# Altium footprint library Common-Parts-Library.PcbLib: 530 footprints (part 18 of 34)
Each footprint in its own frame and in the unit in brackets; x right, y up, seen from the top. Pads: shape width x height; smd on the part's side, far side on the other; paste and mask are expansions set on the pad; w line width, h text height; cw(c..) or ccw(c..) is an arc to the next point about the centre after c.
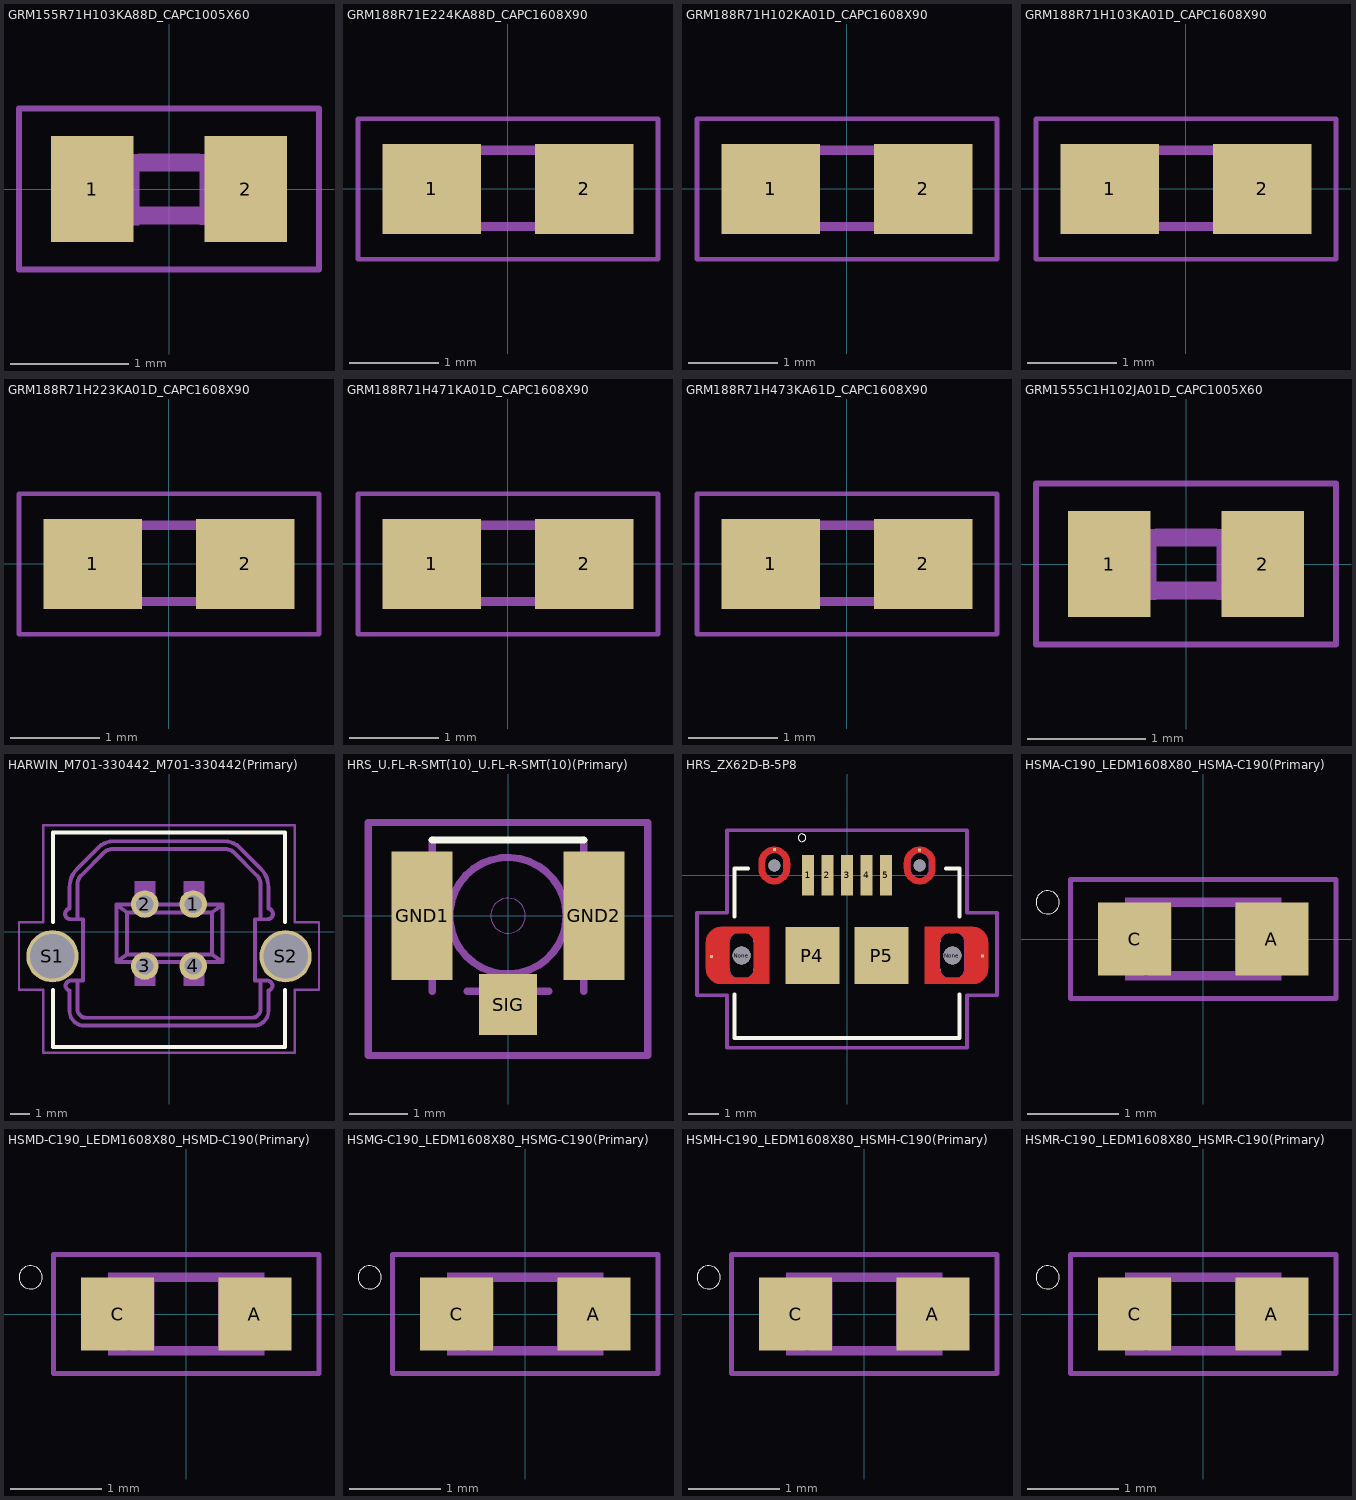
[diagram p17: the footprints below, top view; thin cyan lines are the x and y axes]

## GRM155R71H103KA88D_CAPC1005X60 [mm]
pads (2):
  rect 0.7x0.9 smd: 1(-0.65,0) 2(0.65,0)
Mechanical 1:
  region: 0.259,0.295 0.559,0.295 0.559,-0.305 0.259,-0.305
  region: -0.556,0.295 -0.254,0.295 -0.254,-0.306 -0.556,-0.306
  lines w0.051: -1.273,-0.683 -1.273,0.683 1.273,0.683 1.273,-0.683 -1.273,-0.683
  lines w0.152: -0.245,-0.224 0.245,-0.224 ; -0.245,0.224 0.245,0.224

## GRM188R71E224KA88D_CAPC1608X90 [mm]
pads (2):
  rect 1.1x1 smd: 1(-0.85,0) 2(0.85,0)
Mechanical 1:
  region: 0.33,0.48 0.83,0.48 0.83,-0.47 0.33,-0.47
  region: -0.841,0.48 -0.338,0.48 -0.338,-0.471 -0.841,-0.471
  lines w0.051: -1.673,-0.783 -1.673,0.783 1.673,0.783 1.673,-0.783 -1.673,-0.783
  lines w0.102: -0.356,-0.419 0.356,-0.419 ; -0.356,0.432 0.356,0.432

## GRM188R71H102KA01D_CAPC1608X90 [mm]
pads (2):
  rect 1.1x1 smd: 1(-0.85,0) 2(0.85,0)
Mechanical 1:
  region: 0.331,0.48 0.83,0.48 0.83,-0.471 0.331,-0.471
  region: -0.84,0.48 -0.338,0.48 -0.338,-0.471 -0.84,-0.471
  lines w0.051: -1.673,-0.783 -1.673,0.783 1.673,0.783 1.673,-0.783 -1.673,-0.783
  lines w0.102: -0.356,-0.419 0.356,-0.419 ; -0.356,0.432 0.356,0.432

## GRM188R71H103KA01D_CAPC1608X90 [mm]
pads (2):
  rect 1.1x1 smd: 1(-0.85,0) 2(0.85,0)
Mechanical 1:
  region: 0.33,0.48 0.83,0.48 0.83,-0.47 0.33,-0.47
  region: -0.841,0.48 -0.338,0.48 -0.338,-0.471 -0.841,-0.471
  lines w0.051: -1.673,-0.783 -1.673,0.783 1.673,0.783 1.673,-0.783 -1.673,-0.783
  lines w0.102: -0.356,-0.419 0.356,-0.419 ; -0.356,0.432 0.356,0.432

## GRM188R71H223KA01D_CAPC1608X90 [mm]
pads (2):
  rect 1.1x1 smd: 1(-0.85,0) 2(0.85,0)
Mechanical 1:
  region: 0.331,0.48 0.83,0.48 0.83,-0.47 0.331,-0.47
  region: -0.84,0.48 -0.338,0.48 -0.338,-0.471 -0.84,-0.471
  lines w0.051: -1.673,-0.783 -1.673,0.783 1.673,0.783 1.673,-0.783 -1.673,-0.783
  lines w0.102: -0.356,-0.419 0.356,-0.419 ; -0.356,0.432 0.356,0.432

## GRM188R71H471KA01D_CAPC1608X90 [mm]
pads (2):
  rect 1.1x1 smd: 1(-0.85,0) 2(0.85,0)
Mechanical 1:
  region: 0.331,0.48 0.83,0.48 0.83,-0.471 0.331,-0.471
  region: -0.84,0.48 -0.338,0.48 -0.338,-0.471 -0.84,-0.471
  lines w0.051: -1.673,-0.783 -1.673,0.783 1.673,0.783 1.673,-0.783 -1.673,-0.783
  lines w0.102: -0.356,-0.419 0.356,-0.419 ; -0.356,0.432 0.356,0.432

## GRM188R71H473KA61D_CAPC1608X90 [mm]
pads (2):
  rect 1.1x1 smd: 1(-0.85,0) 2(0.85,0)
Mechanical 1:
  region: 0.331,0.48 0.83,0.48 0.83,-0.471 0.331,-0.471
  region: -0.841,0.48 -0.338,0.48 -0.338,-0.472 -0.841,-0.472
  lines w0.051: -1.673,-0.783 -1.673,0.783 1.673,0.783 1.673,-0.783 -1.673,-0.783
  lines w0.102: -0.356,-0.419 0.356,-0.419 ; -0.356,0.432 0.356,0.432

## GRM1555C1H102JA01D_CAPC1005X60 [mm]
pads (2):
  rect 0.7x0.9 smd: 1(-0.65,0) 2(0.65,0)
Mechanical 1:
  region: 0.259,0.295 0.559,0.295 0.559,-0.305 0.259,-0.305
  region: -0.555,0.295 -0.254,0.295 -0.254,-0.305 -0.555,-0.305
  lines w0.051: -1.273,-0.683 -1.273,0.683 1.273,0.683 1.273,-0.683 -1.273,-0.683
  lines w0.152: -0.245,-0.224 0.245,-0.224 ; -0.245,0.224 0.245,0.224

## HARWIN_M701-330442_M701-330442(Primary) [mm]
pads (6):
  round 1.422 hole 0.9: 1(1.25,1.43) 2(-1.25,1.43) 3(-1.25,-1.77) 4(1.25,-1.77)
  round 2.7 hole 2.3: S1(-6.02,-1.27) S2(6.02,-1.27)
Top Overlay:
  lines w0.203: -6,-3 -6,-5.965 6,-5.965 6,-3 ; -6,0.5 -6,5.135 6,5.135 6,0.5
Mechanical 1:
  region: 0.757,-1.572 1.814,-1.572 1.814,-2.786 0.757,-2.786
  region: -1.768,-1.572 -0.705,-1.572 -0.705,-2.789 -1.768,-2.789
  region: 0.757,2.609 1.814,2.609 1.814,1.402 0.757,1.402
  region: -1.769,2.609 -0.705,2.609 -0.705,1.405 -1.769,1.405
  lines w0.127: -7.75,-3 -7.75,0.5 -6.5,0.5 -6.5,5.5 6.5,5.5 6.5,0.5 7.75,0.5 7.75,-3 6.5,-3 6.5,-6.25 -6.5,-6.25 -6.5,-3 -7.75,-3
  lines w0.203: -5.138,-3.033 -5.138,-4.091 ccw(c-4.383,-4.091) -4.383,-4.847 4.383,-4.847 ccw(c4.383,-4.091) 5.139,-4.091 5.138,-3.033 ; -5.138,1.198 -5.138,2.256 ; -5.139,2.266 cw(c-3.761,2.29) -4.735,3.264 -3.627,4.372 ; -5.137,-3.034 cw(c-5.088,-2.784) -5.088,-2.529 -4.433,-2.529 -4.433,0.644 -4.735,0.644 -4.735,2.408 cw(c-4,2.407) -4.482,2.963 ; -5.137,1.199 ccw(c-5.088,0.924) -5.088,0.644 -4.786,0.644 ; -4.735,-2.58 -4.735,-3.99 ccw(c-4.282,-3.99) -4.282,-4.444 4.282,-4.444 ccw(c4.282,-3.99) 4.735,-3.99 4.735,-2.58 ; -4.484,2.962 -3.375,4.07 ; -3.632,4.367 cw(c-2.871,3.579) -2.871,4.674 2.872,4.674 cw(c2.871,3.579) 3.632,4.367 ; -3.373,4.073 cw(c-2.922,3.667) -2.869,4.271 ; -2.872,4.272 2.872,4.272 ; 2.869,4.271 cw(c2.922,3.667) 3.373,4.073 ; 3.375,4.07 4.484,2.962 ; 3.627,4.372 4.735,3.264 cw(c3.761,2.29) 5.139,2.266 ; 4.482,2.963 cw(c4,2.407) 4.735,2.407 4.735,0.644 4.433,0.644 4.433,-2.529 5.088,-2.529 cw(c5.088,-2.784) 5.137,-3.034 ; 4.786,0.644 5.088,0.644 ccw(c5.088,0.924) 5.137,1.199 ; 5.138,1.198 5.138,2.256 ; -2.72,-1.572 -2.166,-1.169 ; -2.72,-1.572 -2.72,1.4 ; -2.72,-1.572 2.771,-1.572 ; -2.72,1.4 -2.166,0.997 ; -2.72,1.4 2.771,1.4 ; -2.166,-1.169 -2.166,0.997 ; -2.166,-1.169 2.217,-1.169 ; -2.166,0.997 2.217,0.997 ; 2.217,-1.169 2.771,-1.572 ; 2.217,-1.169 2.217,0.997 ; 2.217,0.997 2.771,1.4 ; 2.771,-1.572 2.771,1.4
  text "4" at 0.501,-1.272 h1.88
  text "3" at -1.754,-1.272 h1.88
  text "2" at -1.003,-0.019 h1.88
  text "1" at 1.504,-0.019 h1.88

## HRS_U.FL-R-SMT(10)_U.FL-R-SMT(10)(Primary) [mm]
pads (3):
  rect 1.05x2.2 smd: GND1(-1.475,0) GND2(1.475,0)
  rect 1x1.05 smd: SIG(0,-1.525)
Top Overlay:
  lines w0.127: -1.3,1.3 1.3,1.3
Mechanical 1:
  circle w0: c0,0 r0.3
  circle w0.127: c0,0 r1
  lines w0.127: -1.3,-1.3 -1.3,1.3 ; -0.7,-1.3 0.7,-1.3 ; 1.3,-1.3 1.3,1.3 ; -2.4,-2.4 -2.4,1.6 2.4,1.6 2.4,-2.4 -2.4,-2.4

## HRS_ZX62D-B-5P8 [mm]
pads (15):
  rect 0.4x1.35 smd: 1(-1.3,0) 2(-0.65,0) 3(0,0) 4(0.65,0) 5(1.3,0)
  round 0.6 hole 0.6 unplated: None(-3.512,-2.675) None(3.512,-2.675)
  round 0.4 hole 0.4 unplated: None(-2.425,0.325) None(2.425,0.325)
  rect 0.1x0.1 smd: P1(-2.425,0.85) P2(2.425,0.837) P3(-4.513,-2.712) P6(4.513,-2.688)
  rect 1.8x1.9 smd: P4(-1.15,-2.675) P5(1.15,-2.675)
Top Layer:
  region: 3.1,-2.675 2.6,-2.675 2.6,-1.725 4.2,-1.725 4.213,-1.725 4.239,-1.726 4.265,-1.729 4.291,-1.733 4.317,-1.739 4.342,-1.745 4.367,-1.754 4.391,-1.763 4.415,-1.774 4.439,-1.785 4.461,-1.799 4.483,-1.813 4.504,-1.828 4.525,-1.845 4.544,-1.862 4.563,-1.881 4.58,-1.9 4.597,-1.921 4.612,-1.942 4.626,-1.964 4.64,-1.986 4.651,-2.01 4.662,-2.034 4.671,-2.058 4.68,-2.083 4.686,-2.108 4.692,-2.134 4.696,-2.16 4.699,-2.186 4.7,-2.212 4.7,-2.225 4.7,-2.675 3.925,-2.675 3.925,-2.2 3.925,-2.193 3.924,-2.178 3.923,-2.164 3.92,-2.15 3.917,-2.136 3.914,-2.122 3.909,-2.108 3.904,-2.095 3.898,-2.082 3.892,-2.069 3.885,-2.056 3.877,-2.044 3.868,-2.033 3.859,-2.021 3.85,-2.011 3.839,-2 3.829,-1.991 3.817,-1.982 3.806,-1.973 3.794,-1.965 3.781,-1.958 3.768,-1.952 3.755,-1.946 3.742,-1.941 3.728,-1.936 3.714,-1.933 3.7,-1.93 3.686,-1.927 3.672,-1.926 3.657,-1.925 3.65,-1.925 3.4,-1.925 3.392,-1.925 3.376,-1.926 3.361,-1.927 3.345,-1.93 3.33,-1.933 3.315,-1.937 3.3,-1.942 3.285,-1.948 3.271,-1.954 3.257,-1.961 3.243,-1.969 3.23,-1.978 3.217,-1.987 3.205,-1.997 3.193,-2.007 3.182,-2.018 3.172,-2.03 3.162,-2.042 3.153,-2.055 3.144,-2.068 3.136,-2.082 3.129,-2.096 3.123,-2.11 3.117,-2.125 3.112,-2.14 3.108,-2.155 3.105,-2.17 3.102,-2.186 3.101,-2.201 3.1,-2.217 3.1,-2.225
  region: -3.1,-2.675 -2.6,-2.675 -2.6,-3.625 -4.2,-3.625 -4.213,-3.625 -4.239,-3.624 -4.265,-3.621 -4.291,-3.617 -4.317,-3.611 -4.342,-3.605 -4.367,-3.596 -4.391,-3.587 -4.415,-3.576 -4.439,-3.565 -4.461,-3.551 -4.483,-3.537 -4.504,-3.522 -4.525,-3.505 -4.544,-3.488 -4.563,-3.469 -4.58,-3.45 -4.597,-3.429 -4.612,-3.408 -4.626,-3.386 -4.64,-3.364 -4.651,-3.34 -4.662,-3.316 -4.671,-3.292 -4.68,-3.267 -4.686,-3.242 -4.692,-3.216 -4.696,-3.19 -4.699,-3.164 -4.7,-3.138 -4.7,-3.125 -4.7,-2.675 -3.925,-2.675 -3.925,-3.15 -3.925,-3.157 -3.924,-3.172 -3.923,-3.186 -3.92,-3.2 -3.917,-3.214 -3.914,-3.228 -3.909,-3.242 -3.904,-3.255 -3.898,-3.268 -3.892,-3.281 -3.885,-3.294 -3.877,-3.306 -3.868,-3.317 -3.859,-3.329 -3.85,-3.339 -3.839,-3.35 -3.829,-3.359 -3.817,-3.368 -3.806,-3.377 -3.794,-3.385 -3.781,-3.392 -3.768,-3.398 -3.755,-3.404 -3.742,-3.409 -3.728,-3.414 -3.714,-3.417 -3.7,-3.42 -3.686,-3.423 -3.672,-3.424 -3.657,-3.425 -3.65,-3.425 -3.4,-3.425 -3.392,-3.425 -3.376,-3.424 -3.361,-3.423 -3.345,-3.42 -3.33,-3.417 -3.315,-3.413 -3.3,-3.408 -3.285,-3.402 -3.271,-3.396 -3.257,-3.389 -3.243,-3.381 -3.23,-3.372 -3.217,-3.363 -3.205,-3.353 -3.193,-3.343 -3.182,-3.332 -3.172,-3.32 -3.162,-3.308 -3.153,-3.295 -3.144,-3.282 -3.136,-3.268 -3.129,-3.254 -3.123,-3.24 -3.117,-3.225 -3.112,-3.21 -3.108,-3.195 -3.105,-3.18 -3.102,-3.164 -3.101,-3.149 -3.1,-3.133 -3.1,-3.125
  region: 2.6,-3.625 4.2,-3.625 4.213,-3.625 4.239,-3.624 4.265,-3.621 4.291,-3.617 4.317,-3.611 4.342,-3.605 4.367,-3.596 4.391,-3.587 4.415,-3.576 4.439,-3.565 4.461,-3.551 4.483,-3.537 4.504,-3.522 4.525,-3.505 4.544,-3.488 4.563,-3.469 4.58,-3.45 4.597,-3.429 4.612,-3.408 4.626,-3.386 4.64,-3.364 4.651,-3.34 4.662,-3.316 4.671,-3.292 4.68,-3.267 4.686,-3.242 4.692,-3.216 4.696,-3.19 4.699,-3.164 4.7,-3.138 4.7,-3.125 4.7,-2.675 3.925,-2.675 3.925,-3.125 3.925,-3.133 3.924,-3.149 3.923,-3.164 3.92,-3.18 3.917,-3.195 3.913,-3.21 3.908,-3.225 3.902,-3.24 3.896,-3.254 3.889,-3.268 3.881,-3.282 3.872,-3.295 3.863,-3.308 3.853,-3.32 3.843,-3.332 3.832,-3.343 3.82,-3.353 3.808,-3.363 3.795,-3.372 3.782,-3.381 3.768,-3.389 3.754,-3.396 3.74,-3.402 3.725,-3.408 3.71,-3.413 3.695,-3.417 3.68,-3.42 3.664,-3.423 3.649,-3.424 3.633,-3.425 3.625,-3.425 3.4,-3.425 3.392,-3.425 3.376,-3.424 3.361,-3.423 3.345,-3.42 3.33,-3.417 3.315,-3.413 3.3,-3.408 3.285,-3.402 3.271,-3.396 3.257,-3.389 3.243,-3.381 3.23,-3.372 3.217,-3.363 3.205,-3.353 3.193,-3.343 3.182,-3.332 3.172,-3.32 3.162,-3.308 3.153,-3.295 3.144,-3.282 3.136,-3.268 3.129,-3.254 3.123,-3.24 3.117,-3.225 3.112,-3.21 3.108,-3.195 3.105,-3.18 3.102,-3.164 3.101,-3.149 3.1,-3.133 3.1,-3.125 3.1,-2.675 2.6,-2.675
  region: -2.6,-1.725 -4.2,-1.725 -4.213,-1.725 -4.239,-1.726 -4.265,-1.729 -4.291,-1.733 -4.317,-1.739 -4.342,-1.745 -4.367,-1.754 -4.391,-1.763 -4.415,-1.774 -4.439,-1.785 -4.461,-1.799 -4.483,-1.813 -4.504,-1.828 -4.525,-1.845 -4.544,-1.862 -4.563,-1.881 -4.58,-1.9 -4.597,-1.921 -4.612,-1.942 -4.626,-1.964 -4.64,-1.986 -4.651,-2.01 -4.662,-2.034 -4.671,-2.058 -4.68,-2.083 -4.686,-2.108 -4.692,-2.134 -4.696,-2.16 -4.699,-2.186 -4.7,-2.212 -4.7,-2.225 -4.7,-2.675 -3.925,-2.675 -3.925,-2.225 -3.925,-2.217 -3.924,-2.201 -3.923,-2.186 -3.92,-2.17 -3.917,-2.155 -3.913,-2.14 -3.908,-2.125 -3.902,-2.11 -3.896,-2.096 -3.889,-2.082 -3.881,-2.068 -3.872,-2.055 -3.863,-2.042 -3.853,-2.03 -3.843,-2.018 -3.832,-2.007 -3.82,-1.997 -3.808,-1.987 -3.795,-1.978 -3.782,-1.969 -3.768,-1.961 -3.754,-1.954 -3.74,-1.948 -3.725,-1.942 -3.71,-1.937 -3.695,-1.933 -3.68,-1.93 -3.664,-1.927 -3.649,-1.926 -3.633,-1.925 -3.625,-1.925 -3.4,-1.925 -3.392,-1.925 -3.376,-1.926 -3.361,-1.927 -3.345,-1.93 -3.33,-1.933 -3.315,-1.937 -3.3,-1.942 -3.285,-1.948 -3.271,-1.954 -3.257,-1.961 -3.243,-1.969 -3.23,-1.978 -3.217,-1.987 -3.205,-1.997 -3.193,-2.007 -3.182,-2.018 -3.172,-2.03 -3.162,-2.042 -3.153,-2.055 -3.144,-2.068 -3.136,-2.082 -3.129,-2.096 -3.123,-2.11 -3.117,-2.125 -3.112,-2.14 -3.108,-2.155 -3.105,-2.17 -3.102,-2.186 -3.101,-2.201 -3.1,-2.217 -3.1,-2.225 -3.1,-2.675 -2.6,-2.675
  region: 2.425,-0.1 2.425,-0.3 2.411,-0.3 2.384,-0.299 2.356,-0.296 2.329,-0.291 2.302,-0.286 2.276,-0.279 2.25,-0.27 2.224,-0.26 2.199,-0.249 2.174,-0.237 2.151,-0.223 2.128,-0.208 2.105,-0.192 2.084,-0.174 2.063,-0.156 2.044,-0.137 2.026,-0.116 2.008,-0.095 1.992,-0.072 1.977,-0.049 1.963,-0.026 1.951,-0.001 1.94,0.024 1.93,0.05 1.921,0.076 1.914,0.102 1.909,0.129 1.904,0.156 1.901,0.184 1.9,0.211 1.9,0.225 1.9,0.425 1.9,0.439 1.901,0.466 1.904,0.494 1.909,0.521 1.914,0.548 1.921,0.574 1.93,0.6 1.94,0.626 1.951,0.651 1.963,0.676 1.977,0.699 1.992,0.722 2.008,0.745 2.026,0.766 2.044,0.787 2.063,0.806 2.084,0.824 2.105,0.842 2.128,0.858 2.151,0.873 2.174,0.887 2.199,0.899 2.224,0.91 2.25,0.92 2.276,0.929 2.302,0.936 2.329,0.941 2.356,0.946 2.384,0.949 2.411,0.95 2.425,0.95 2.425,0.75 2.416,0.75 2.399,0.749 2.383,0.747 2.366,0.745 2.349,0.741 2.333,0.737 2.316,0.731 2.301,0.725 2.285,0.718 2.27,0.711 2.255,0.702 2.241,0.693 2.227,0.683 2.214,0.672 2.201,0.661 2.189,0.649 2.178,0.636 2.167,0.623 2.157,0.609 2.148,0.595 2.139,0.58 2.132,0.565 2.125,0.549 2.119,0.534 2.113,0.517 2.109,0.501 2.105,0.484 2.103,0.467 2.101,0.451 2.1,0.434 2.1,0.425 2.1,0.225 2.1,0.216 2.101,0.199 2.103,0.183 2.105,0.166 2.109,0.149 2.113,0.133 2.119,0.116 2.125,0.101 2.132,0.085 2.139,0.07 2.148,0.055 2.157,0.041 2.167,0.027 2.178,0.014 2.189,0.001 2.201,-0.011 2.214,-0.022 2.227,-0.033 2.241,-0.043 2.255,-0.052 2.27,-0.061 2.285,-0.068 2.301,-0.075 2.316,-0.081 2.333,-0.087 2.349,-0.091 2.366,-0.095 2.383,-0.097 2.399,-0.099 2.416,-0.1
  region: 2.425,0.75 2.425,0.95 2.439,0.95 2.466,0.949 2.494,0.946 2.521,0.941 2.548,0.936 2.574,0.929 2.6,0.92 2.626,0.91 2.651,0.899 2.676,0.887 2.699,0.873 2.722,0.858 2.745,0.842 2.766,0.824 2.787,0.806 2.806,0.787 2.824,0.766 2.842,0.745 2.858,0.722 2.873,0.699 2.887,0.676 2.899,0.651 2.91,0.626 2.92,0.6 2.929,0.574 2.936,0.548 2.941,0.521 2.946,0.494 2.949,0.466 2.95,0.439 2.95,0.425 2.95,0.225 2.95,0.211 2.949,0.184 2.946,0.156 2.941,0.129 2.936,0.102 2.929,0.076 2.92,0.05 2.91,0.024 2.899,-0.001 2.887,-0.026 2.873,-0.049 2.858,-0.072 2.842,-0.095 2.824,-0.116 2.806,-0.137 2.787,-0.156 2.766,-0.174 2.745,-0.192 2.722,-0.208 2.699,-0.223 2.676,-0.237 2.651,-0.249 2.626,-0.26 2.6,-0.27 2.574,-0.279 2.548,-0.286 2.521,-0.291 2.494,-0.296 2.466,-0.299 2.439,-0.3 2.425,-0.3 2.425,-0.1 2.434,-0.1 2.451,-0.099 2.467,-0.097 2.484,-0.095 2.501,-0.091 2.517,-0.087 2.534,-0.081 2.549,-0.075 2.565,-0.068 2.58,-0.061 2.595,-0.052 2.609,-0.043 2.623,-0.033 2.636,-0.022 2.649,-0.011 2.661,0.001 2.672,0.014 2.683,0.027 2.693,0.041 2.702,0.055 2.711,0.07 2.718,0.085 2.725,0.101 2.731,0.116 2.737,0.133 2.741,0.149 2.745,0.166 2.747,0.183 2.749,0.199 2.75,0.216 2.75,0.225 2.75,0.425 2.75,0.434 2.749,0.451 2.747,0.467 2.745,0.484 2.741,0.501 2.737,0.517 2.731,0.534 2.725,0.549 2.718,0.565 2.711,0.58 2.702,0.595 2.693,0.609 2.683,0.623 2.672,0.636 2.661,0.649 2.649,0.661 2.636,0.672 2.623,0.683 2.609,0.693 2.595,0.702 2.58,0.711 2.565,0.718 2.549,0.725 2.534,0.731 2.517,0.737 2.501,0.741 2.484,0.745 2.467,0.747 2.451,0.749 2.434,0.75
  region: -2.425,-0.1 -2.425,-0.3 -2.439,-0.3 -2.466,-0.299 -2.494,-0.296 -2.521,-0.291 -2.548,-0.286 -2.574,-0.279 -2.6,-0.27 -2.626,-0.26 -2.651,-0.249 -2.676,-0.237 -2.699,-0.223 -2.722,-0.208 -2.745,-0.192 -2.766,-0.174 -2.787,-0.156 -2.806,-0.137 -2.824,-0.116 -2.842,-0.095 -2.858,-0.072 -2.873,-0.049 -2.887,-0.026 -2.899,-0.001 -2.91,0.024 -2.92,0.05 -2.929,0.076 -2.936,0.102 -2.941,0.129 -2.946,0.156 -2.949,0.184 -2.95,0.211 -2.95,0.225 -2.95,0.425 -2.95,0.439 -2.949,0.466 -2.946,0.494 -2.941,0.521 -2.936,0.548 -2.929,0.574 -2.92,0.6 -2.91,0.626 -2.899,0.651 -2.887,0.676 -2.873,0.699 -2.858,0.722 -2.842,0.745 -2.824,0.766 -2.806,0.787 -2.787,0.806 -2.766,0.824 -2.745,0.842 -2.722,0.858 -2.699,0.873 -2.676,0.887 -2.651,0.899 -2.626,0.91 -2.6,0.92 -2.574,0.929 -2.548,0.936 -2.521,0.941 -2.494,0.946 -2.466,0.949 -2.439,0.95 -2.425,0.95 -2.425,0.75 -2.434,0.75 -2.451,0.749 -2.467,0.747 -2.484,0.745 -2.501,0.741 -2.517,0.737 -2.534,0.731 -2.549,0.725 -2.565,0.718 -2.58,0.711 -2.595,0.702 -2.609,0.693 -2.623,0.683 -2.636,0.672 -2.649,0.661 -2.661,0.649 -2.672,0.636 -2.683,0.623 -2.693,0.609 -2.702,0.595 -2.711,0.58 -2.718,0.565 -2.725,0.549 -2.731,0.534 -2.737,0.517 -2.741,0.501 -2.745,0.484 -2.747,0.467 -2.749,0.451 -2.75,0.434 -2.75,0.425 -2.75,0.225 -2.75,0.216 -2.749,0.199 -2.747,0.183 -2.745,0.166 -2.741,0.149 -2.737,0.133 -2.731,0.116 -2.725,0.101 -2.718,0.085 -2.711,0.07 -2.702,0.055 -2.693,0.041 -2.683,0.027 -2.672,0.014 -2.661,0.001 -2.649,-0.011 -2.636,-0.022 -2.623,-0.033 -2.609,-0.043 -2.595,-0.052 -2.58,-0.061 -2.565,-0.068 -2.549,-0.075 -2.534,-0.081 -2.517,-0.087 -2.501,-0.091 -2.484,-0.095 -2.467,-0.097 -2.451,-0.099 -2.434,-0.1
  region: -2.425,0.75 -2.425,0.95 -2.411,0.95 -2.384,0.949 -2.356,0.946 -2.329,0.941 -2.302,0.936 -2.276,0.929 -2.25,0.92 -2.224,0.91 -2.199,0.899 -2.174,0.887 -2.151,0.873 -2.128,0.858 -2.105,0.842 -2.084,0.824 -2.063,0.806 -2.044,0.787 -2.026,0.766 -2.008,0.745 -1.992,0.722 -1.977,0.699 -1.963,0.676 -1.951,0.651 -1.94,0.626 -1.93,0.6 -1.921,0.574 -1.914,0.548 -1.909,0.521 -1.904,0.494 -1.901,0.466 -1.9,0.439 -1.9,0.425 -1.9,0.225 -1.9,0.211 -1.901,0.184 -1.904,0.156 -1.909,0.129 -1.914,0.102 -1.921,0.076 -1.93,0.05 -1.94,0.024 -1.951,-0.001 -1.963,-0.026 -1.977,-0.049 -1.992,-0.072 -2.008,-0.095 -2.026,-0.116 -2.044,-0.137 -2.063,-0.156 -2.084,-0.174 -2.105,-0.192 -2.128,-0.208 -2.151,-0.223 -2.174,-0.237 -2.199,-0.249 -2.224,-0.26 -2.25,-0.27 -2.276,-0.279 -2.302,-0.286 -2.329,-0.291 -2.356,-0.296 -2.384,-0.299 -2.411,-0.3 -2.425,-0.3 -2.425,-0.1 -2.416,-0.1 -2.399,-0.099 -2.383,-0.097 -2.366,-0.095 -2.349,-0.091 -2.333,-0.087 -2.316,-0.081 -2.301,-0.075 -2.285,-0.068 -2.27,-0.061 -2.255,-0.052 -2.241,-0.043 -2.227,-0.033 -2.214,-0.022 -2.201,-0.011 -2.189,0.001 -2.178,0.014 -2.167,0.027 -2.157,0.041 -2.148,0.055 -2.139,0.07 -2.132,0.085 -2.125,0.101 -2.119,0.116 -2.113,0.133 -2.109,0.149 -2.105,0.166 -2.103,0.183 -2.101,0.199 -2.1,0.216 -2.1,0.225 -2.1,0.425 -2.1,0.434 -2.101,0.451 -2.103,0.467 -2.105,0.484 -2.109,0.501 -2.113,0.517 -2.119,0.534 -2.125,0.549 -2.132,0.565 -2.139,0.58 -2.148,0.595 -2.157,0.609 -2.167,0.623 -2.178,0.636 -2.189,0.649 -2.201,0.661 -2.214,0.672 -2.227,0.683 -2.241,0.693 -2.255,0.702 -2.27,0.711 -2.285,0.718 -2.301,0.725 -2.316,0.731 -2.333,0.737 -2.349,0.741 -2.366,0.745 -2.383,0.747 -2.399,0.749 -2.416,0.75
Top Overlay:
  circle w0: c-1.5,1.25 r0.127
  lines w0.127: -3.75,-3.975 -3.75,-5.425 3.75,-5.425 3.75,-3.975 ; -3.75,-1.375 -3.75,0.225 -3.3,0.225 ; 3.3,0.225 3.75,0.225 3.75,-1.375
Top Paste:
  drawing of 8 lines, arcs and shapes, not listed
Top Solder:
  region: 2.506,-1.625 4.8,-1.625 4.8,-3.734 2.506,-3.734
  region: -4.808,-1.625 -2.5,-1.625 -2.5,-3.731 -4.808,-3.731
  region: 1.805,1.05 3.05,1.05 3.05,-0.401 1.805,-0.401
  region: -3.057,1.05 -1.8,1.05 -1.8,-0.401 -3.057,-0.401
Mechanical 1:
  lines w0.01: -3.925,-3.125 ccw(c-3.625,-3.125) -3.625,-3.425 -3.4,-3.425 ccw(c-3.4,-3.125) -3.1,-3.125 -3.1,-2.225 ccw(c-3.4,-2.225) -3.4,-1.925 -3.625,-1.925 ccw(c-3.625,-2.225) -3.925,-2.225 -3.925,-3.125 ; -2.75,0.225 ccw(c-2.425,0.225) -2.425,-0.1 ccw(c-2.425,0.225) -2.1,0.225 -2.1,0.425 ccw(c-2.425,0.425) -2.425,0.75 ccw(c-2.425,0.425) -2.75,0.425 -2.75,0.225 ; 2.1,0.225 ccw(c2.425,0.225) 2.425,-0.1 ccw(c2.425,0.225) 2.75,0.225 2.75,0.425 ccw(c2.425,0.425) 2.425,0.75 ccw(c2.425,0.425) 2.1,0.425 2.1,0.225 ; 3.1,-3.125 ccw(c3.4,-3.125) 3.4,-3.425 3.625,-3.425 ccw(c3.625,-3.125) 3.925,-3.125 3.925,-2.225 ccw(c3.625,-2.225) 3.625,-1.925 3.4,-1.925 ccw(c3.4,-2.225) 3.1,-2.225 3.1,-3.125
  lines w0.127: -5,-4 -4,-4 -4,-5.75 4,-5.75 4,-4 5,-4 5,-1.25 4,-1.25 4,1.5 -4,1.5 -4,-1.25 -5,-1.25 -5,-4

## HSMA-C190_LEDM1608X80_HSMA-C190(Primary) [mm]
pads (2):
  rect 0.8x0.8 smd: A(0.75,0) C(-0.75,0)
Top Overlay:
  circle w0: c-1.7,0.4 r0.127
Mechanical 1:
  circle w0.051: c-0.625,-0.35 r0.075
  region: 0.55,0.175 0.55,0.275 0.65,0.275 0.65,0.175
  region: 0.55,-0.275 0.55,-0.175 0.65,-0.175 0.65,-0.275
  region: 0.35,-0.275 0.35,0.275 0.575,0.275 0.575,-0.275
  region: 0.35,0.25 0.35,0.45 0.85,0.45 0.85,0.25
  region: 0.35,-0.45 0.35,-0.25 0.85,-0.25 0.85,-0.45
  region: -0.576,-0.451 -0.576,0.451 -0.351,0.451 -0.351,-0.451
  region: -0.85,0.25 -0.85,0.451 -0.551,0.451 -0.551,0.25
  region: -0.726,-0.451 -0.726,-0.4 -0.35,-0.4 -0.35,-0.451
  region: -0.601,-0.276 -0.601,-0.225 -0.55,-0.225 -0.55,-0.276
  region: -0.851,-0.451 -0.851,-0.249 -0.701,-0.249 -0.701,-0.451
  lines w0.05: -1.45,-0.65 -1.45,0.65 1.45,0.65 1.45,-0.65 -1.45,-0.65
  lines w0.051: 0.825,-0.275 cw(c0.825,0) 0.825,0.275
  lines w0.102: -0.8,-0.3 ccw(c-0.826,0) -0.8,0.3 ; -0.375,-0.4 0.35,-0.4 ; -0.35,0.4 0.35,0.4

## HSMD-C190_LEDM1608X80_HSMD-C190(Primary) [mm]
pads (2):
  rect 0.8x0.8 smd: A(0.75,0) C(-0.75,0)
Top Overlay:
  circle w0: c-1.7,0.4 r0.127
Mechanical 1:
  circle w0.051: c-0.625,-0.35 r0.075
  region: 0.55,0.175 0.55,0.275 0.65,0.275 0.65,0.175
  region: 0.55,-0.275 0.55,-0.176 0.651,-0.176 0.651,-0.275
  region: 0.35,-0.275 0.35,0.275 0.575,0.275 0.575,-0.275
  region: 0.351,0.251 0.351,0.449 0.851,0.449 0.851,0.251
  region: 0.35,-0.45 0.35,-0.251 0.851,-0.251 0.851,-0.45
  region: -0.576,-0.451 -0.576,0.451 -0.351,0.451 -0.351,-0.451
  region: -0.851,0.249 -0.851,0.451 -0.551,0.451 -0.551,0.249
  region: -0.726,-0.451 -0.726,-0.4 -0.35,-0.4 -0.35,-0.451
  region: -0.601,-0.276 -0.601,-0.224 -0.551,-0.224 -0.551,-0.276
  region: -0.851,-0.451 -0.851,-0.25 -0.7,-0.25 -0.7,-0.451
  lines w0.05: -1.45,-0.65 -1.45,0.65 1.45,0.65 1.45,-0.65 -1.45,-0.65
  lines w0.051: 0.825,-0.275 cw(c0.825,0) 0.825,0.275
  lines w0.102: -0.8,-0.3 ccw(c-0.826,0) -0.8,0.3 ; -0.375,-0.4 0.35,-0.4 ; -0.35,0.4 0.35,0.4

## HSMG-C190_LEDM1608X80_HSMG-C190(Primary) [mm]
pads (2):
  rect 0.8x0.8 smd: A(0.75,0) C(-0.75,0)
Top Overlay:
  circle w0: c-1.7,0.4 r0.127
Mechanical 1:
  circle w0.051: c-0.625,-0.35 r0.075
  region: 0.551,0.176 0.551,0.275 0.65,0.275 0.65,0.176
  region: 0.55,-0.275 0.55,-0.176 0.651,-0.176 0.651,-0.275
  region: 0.35,-0.275 0.35,0.275 0.575,0.275 0.575,-0.275
  region: 0.35,0.25 0.35,0.45 0.85,0.45 0.85,0.25
  region: 0.35,-0.45 0.35,-0.252 0.852,-0.252 0.852,-0.45
  region: -0.575,-0.45 -0.575,0.45 -0.35,0.45 -0.35,-0.45
  region: -0.851,0.249 -0.851,0.452 -0.552,0.452 -0.552,0.249
  region: -0.726,-0.451 -0.726,-0.4 -0.35,-0.4 -0.35,-0.451
  region: -0.601,-0.276 -0.601,-0.225 -0.55,-0.225 -0.55,-0.276
  region: -0.851,-0.451 -0.851,-0.25 -0.7,-0.25 -0.7,-0.451
  lines w0.05: -1.45,-0.65 -1.45,0.65 1.45,0.65 1.45,-0.65 -1.45,-0.65
  lines w0.051: 0.825,-0.275 cw(c0.825,0) 0.825,0.275
  lines w0.102: -0.8,-0.3 ccw(c-0.826,0) -0.8,0.3 ; -0.375,-0.4 0.35,-0.4 ; -0.35,0.4 0.35,0.4

## HSMH-C190_LEDM1608X80_HSMH-C190(Primary) [mm]
pads (2):
  rect 0.8x0.8 smd: A(0.75,0) C(-0.75,0)
Top Overlay:
  circle w0: c-1.7,0.4 r0.127
Mechanical 1:
  circle w0.051: c-0.625,-0.35 r0.075
  region: 0.55,0.175 0.55,0.275 0.65,0.275 0.65,0.175
  region: 0.55,-0.275 0.55,-0.176 0.651,-0.176 0.651,-0.275
  region: 0.35,-0.275 0.35,0.275 0.575,0.275 0.575,-0.275
  region: 0.351,0.251 0.351,0.45 0.85,0.45 0.85,0.251
  region: 0.35,-0.45 0.35,-0.252 0.852,-0.252 0.852,-0.45
  region: -0.576,-0.451 -0.576,0.451 -0.351,0.451 -0.351,-0.451
  region: -0.851,0.249 -0.851,0.451 -0.551,0.451 -0.551,0.249
  region: -0.725,-0.45 -0.725,-0.4 -0.35,-0.4 -0.35,-0.45
  region: -0.601,-0.276 -0.601,-0.225 -0.55,-0.225 -0.55,-0.276
  region: -0.852,-0.452 -0.852,-0.249 -0.701,-0.249 -0.701,-0.452
  lines w0.05: -1.45,-0.65 -1.45,0.65 1.45,0.65 1.45,-0.65 -1.45,-0.65
  lines w0.051: 0.825,-0.275 cw(c0.825,0) 0.825,0.275
  lines w0.102: -0.8,-0.3 ccw(c-0.826,0) -0.8,0.3 ; -0.375,-0.4 0.35,-0.4 ; -0.35,0.4 0.35,0.4

## HSMR-C190_LEDM1608X80_HSMR-C190(Primary) [mm]
pads (2):
  rect 0.8x0.8 smd: A(0.75,0) C(-0.75,0)
Top Overlay:
  circle w0: c-1.7,0.4 r0.127
Mechanical 1:
  circle w0.051: c-0.625,-0.35 r0.075
  region: 0.551,0.176 0.551,0.275 0.65,0.275 0.65,0.176
  region: 0.55,-0.275 0.55,-0.176 0.651,-0.176 0.651,-0.275
  region: 0.35,-0.275 0.35,0.275 0.575,0.275 0.575,-0.275
  region: 0.351,0.251 0.351,0.45 0.85,0.45 0.85,0.251
  region: 0.35,-0.45 0.35,-0.252 0.852,-0.252 0.852,-0.45
  region: -0.576,-0.451 -0.576,0.451 -0.351,0.451 -0.351,-0.451
  region: -0.85,0.25 -0.85,0.45 -0.55,0.45 -0.55,0.25
  region: -0.726,-0.451 -0.726,-0.4 -0.35,-0.4 -0.35,-0.451
  region: -0.601,-0.276 -0.601,-0.225 -0.55,-0.225 -0.55,-0.276
  region: -0.85,-0.45 -0.85,-0.25 -0.7,-0.25 -0.7,-0.45
  lines w0.05: -1.45,-0.65 -1.45,0.65 1.45,0.65 1.45,-0.65 -1.45,-0.65
  lines w0.051: 0.825,-0.275 cw(c0.825,0) 0.825,0.275
  lines w0.102: -0.8,-0.3 ccw(c-0.826,0) -0.8,0.3 ; -0.375,-0.4 0.35,-0.4 ; -0.35,0.4 0.35,0.4